# EAGLE library part 216309-8 (library connectors)
215309-8 2 row 16 pin 2.54 mm / 0.1 inch spacing
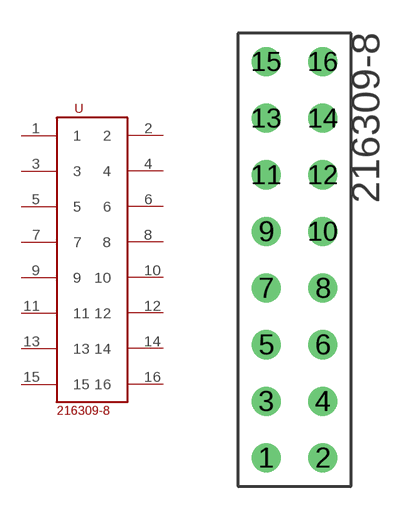
[diagram p0: symbol with the pads of 216309-8; footprint 216309-8]

Designator prefix -

## 216309-8  [216309-8]
1  1
2  2
3  3
4  4
5  5
6  6
7  7
8  8
9  9
10  10
11  11
12  12
13  13
14  14
15  15
16  16

## Footprint 216309-8 (pad centres in mm)
TE CONNECTIVITY 215309-8
drill 0.8: 1 0,0; 2 2.54,0; 3 0,2.54; 4 2.54,2.54; 5 0,5.08; 6 2.54,5.08; 7 0,7.62; 8 2.54,7.62; 9 0,10.16; 10 2.54,10.16; 11 0,12.7; 12 2.54,12.7; 13 0,15.24; 14 2.54,15.24; 15 0,17.78; 16 2.54,17.78